# Altium integrated library Actel MX.IntLib: 334 symbols (part 2 of 20)
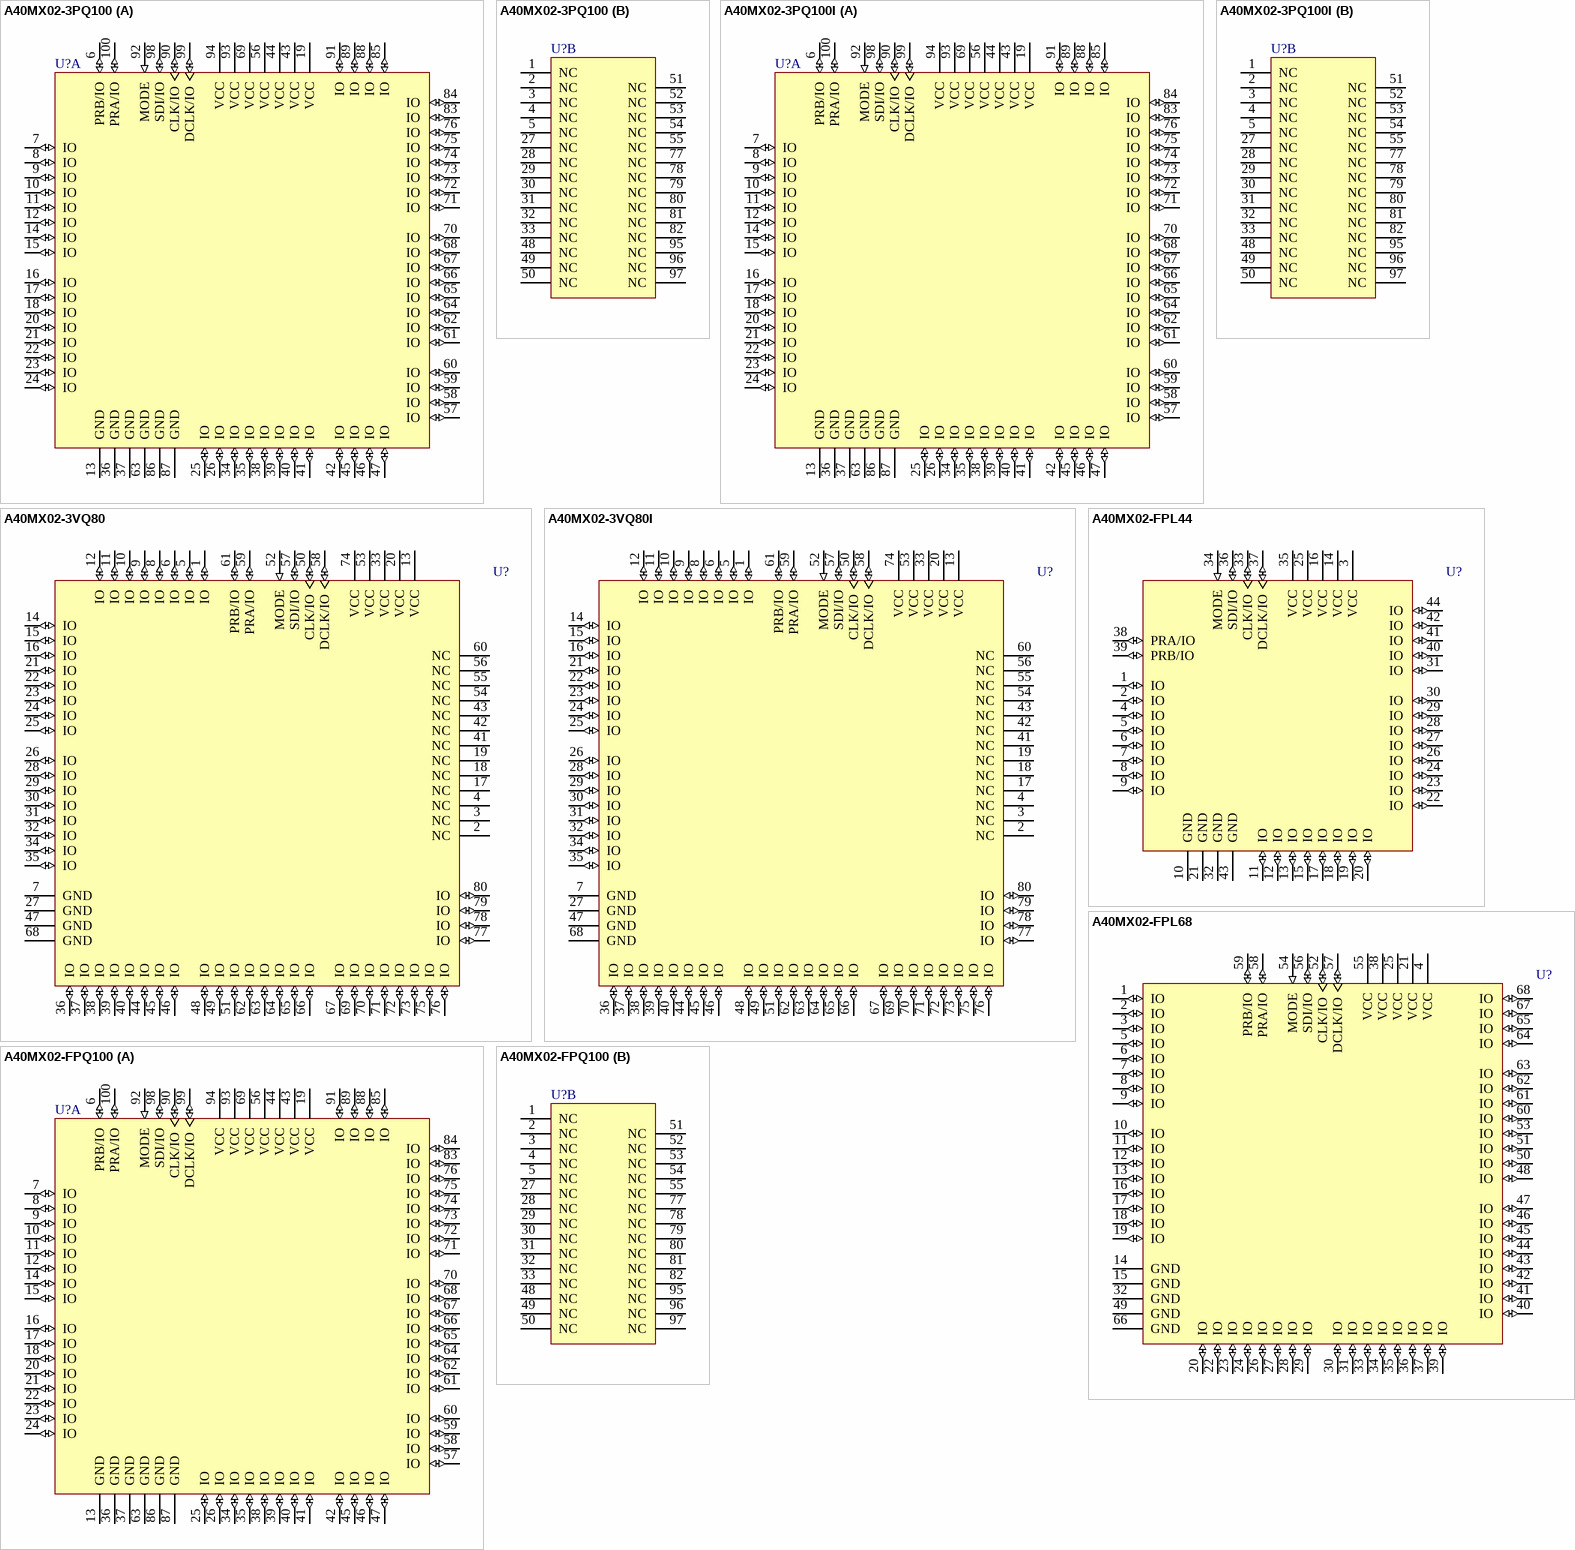
[diagram p133: symbols A40MX02-3PQ100 to A40MX02-FPQ100]

## A40MX02-3VQ80
designator U?
A40MX02 FPGA, 57 User IOs, 80-Pin VQFP, Speed Grade 3, Commercial Grade; DatasheetVersion: v6.1, Apr-2009; PackageVersion: ver11.2, Nov-2009; PackageReference: VQ80; PackageDescription: 80-Pin Plastic Quad Flat Pack (VQ80); Code_JEDEC: MS-026-AEC; ComponentLink1Description: Manufacturer URL; ComponentLink1URL: http://www.actel.com/; ComponentLink2Description: MX Datasheet; ComponentLink2URL: http://www.actel.com/documents/MX_DS.pdf; ComponentLink3Description: Package Mechanical Drawings; ComponentLink3URL: http://www.actel.com/documents/PckgMechDrwngs.pdf; ComponentLink4Description: MX Documents; ComponentLink4URL: http://www.actel.com/products/mx/docs.aspx
footprint VQ80_N (Thin QFP, 80-Leads, Body 14 x 14mm, Pitch 0.65mm, IPC Medium Density)
footprint VQ80_L (Thin QFP, 80-Leads, Body 14 x 14mm, Pitch 0.65mm, IPC High Density)
footprint VQ80_M (Thin QFP, 80-Leads, Body 14 x 14mm, Pitch 0.65mm, IPC Low Density)
pins: 1 IO (io), 2 NC, 3 NC, 4 NC, 5 IO (io), 6 IO (io), 7 GND (power), 8 IO (io), 9 IO (io), 10 IO (io), 11 IO (io), 12 IO (io), 13 VCC (power), 14 IO (io), 15 IO (io), 16 IO (io), 17 NC, 18 NC, 19 NC, 20 VCC (power), 21 IO (io), 22 IO (io), 23 IO (io), 24 IO (io), 25 IO (io), 26 IO (io), 27 GND (power), 28 IO (io), 29 IO (io), 30 IO (io), 31 IO (io), 32 IO (io), 33 VCC (power), 34 IO (io), 35 IO (io), 36 IO (io), 37 IO (io), 38 IO (io), 39 IO (io), 40 IO (io), 41 NC, 42 NC, 43 NC, 44 IO (io), 45 IO (io), 46 IO (io), 47 GND (power), 48 IO (io), 49 IO (io), 50 CLK/IO (io), 51 IO (io), 52 MODE (in), 53 VCC (power), 54 NC, 55 NC, 56 NC, 57 SDI/IO (io), 58 DCLK/IO (io), 59 PRA/IO (io), 60 NC, 61 PRB/IO (io), 62 IO (io), 63 IO (io), 64 IO (io), 65 IO (io), 66 IO (io), 67 IO (io), 68 GND (power), 69 IO (io), 70 IO (io), 71 IO (io), 72 IO (io), 73 IO (io), 74 VCC (power), 75 IO (io), 76 IO (io), 77 IO (io), 78 IO (io), 79 IO (io), 80 IO (io)

## A40MX02-3VQ80I
designator U?
A40MX02 FPGA, 57 User IOs, 80-Pin VQFP, Speed Grade 3, Industrial Grade; DatasheetVersion: v6.1, Apr-2009; PackageVersion: ver11.2, Nov-2009; PackageReference: VQ80; PackageDescription: 80-Pin Plastic Quad Flat Pack (VQ80); Code_JEDEC: MS-026-AEC; ComponentLink1Description: Manufacturer URL; ComponentLink1URL: http://www.actel.com/; ComponentLink2Description: MX Datasheet; ComponentLink2URL: http://www.actel.com/documents/MX_DS.pdf; ComponentLink3Description: Package Mechanical Drawings; ComponentLink3URL: http://www.actel.com/documents/PckgMechDrwngs.pdf; ComponentLink4Description: MX Documents; ComponentLink4URL: http://www.actel.com/products/mx/docs.aspx
footprint VQ80_N (Thin QFP, 80-Leads, Body 14 x 14mm, Pitch 0.65mm, IPC Medium Density)
footprint VQ80_L (Thin QFP, 80-Leads, Body 14 x 14mm, Pitch 0.65mm, IPC High Density)
footprint VQ80_M (Thin QFP, 80-Leads, Body 14 x 14mm, Pitch 0.65mm, IPC Low Density)
pins: 1 IO (io), 2 NC, 3 NC, 4 NC, 5 IO (io), 6 IO (io), 7 GND (power), 8 IO (io), 9 IO (io), 10 IO (io), 11 IO (io), 12 IO (io), 13 VCC (power), 14 IO (io), 15 IO (io), 16 IO (io), 17 NC, 18 NC, 19 NC, 20 VCC (power), 21 IO (io), 22 IO (io), 23 IO (io), 24 IO (io), 25 IO (io), 26 IO (io), 27 GND (power), 28 IO (io), 29 IO (io), 30 IO (io), 31 IO (io), 32 IO (io), 33 VCC (power), 34 IO (io), 35 IO (io), 36 IO (io), 37 IO (io), 38 IO (io), 39 IO (io), 40 IO (io), 41 NC, 42 NC, 43 NC, 44 IO (io), 45 IO (io), 46 IO (io), 47 GND (power), 48 IO (io), 49 IO (io), 50 CLK/IO (io), 51 IO (io), 52 MODE (in), 53 VCC (power), 54 NC, 55 NC, 56 NC, 57 SDI/IO (io), 58 DCLK/IO (io), 59 PRA/IO (io), 60 NC, 61 PRB/IO (io), 62 IO (io), 63 IO (io), 64 IO (io), 65 IO (io), 66 IO (io), 67 IO (io), 68 GND (power), 69 IO (io), 70 IO (io), 71 IO (io), 72 IO (io), 73 IO (io), 74 VCC (power), 75 IO (io), 76 IO (io), 77 IO (io), 78 IO (io), 79 IO (io), 80 IO (io)

## A40MX02-FPL44
designator U?
A40MX02 FPGA, 34 User IOs, 44-Pin PLCC, Speed Grade F, Commercial Grade; DatasheetVersion: v6.1, Apr-2009; PackageVersion: ver11.2, Nov-2009; PackageReference: PL44; PackageDescription: 44-Pin Plastic Leaded Chip Carrier (PL44); Code_JEDEC: MS-018-AC; Code_IPC: PLCC-44; ComponentLink1Description: Manufacturer URL; ComponentLink1URL: http://www.actel.com/; ComponentLink2Description: MX Datasheet; ComponentLink2URL: http://www.actel.com/documents/MX_DS.pdf; ComponentLink3Description: Package Mechanical Drawings; ComponentLink3URL: http://www.actel.com/documents/PckgMechDrwngs.pdf; ComponentLink4Description: MX Documents; ComponentLink4URL: http://www.actel.com/products/mx/docs.aspx
footprint PL44_N (Leaded Chip Carrier, 44-Leads, Body 16.6x16.6mm, Pitch 1.27mm, IPC Medium Density)
footprint PL44_L (Leaded Chip Carrier, 44-Leads, Body 16.6x16.6mm, Pitch 1.27mm, IPC High Density)
footprint PL44_M (Leaded Chip Carrier, 44-Leads, Body 16.6x16.6mm, Pitch 1.27mm, IPC Low Density)
pins: 1 IO (io), 2 IO (io), 3 VCC (power), 4 IO (io), 5 IO (io), 6 IO (io), 7 IO (io), 8 IO (io), 9 IO (io), 10 GND (power), 11 IO (io), 12 IO (io), 13 IO (io), 14 VCC (power), 15 IO (io), 16 VCC (power), 17 IO (io), 18 IO (io), 19 IO (io), 20 IO (io), 21 GND (power), 22 IO (io), 23 IO (io), 24 IO (io), 25 VCC (power), 26 IO (io), 27 IO (io), 28 IO (io), 29 IO (io), 30 IO (io), 31 IO (io), 32 GND (power), 33 CLK/IO (io), 34 MODE (in), 35 VCC (power), 36 SDI/IO (io), 37 DCLK/IO (io), 38 PRA/IO (io), 39 PRB/IO (io), 40 IO (io), 41 IO (io), 42 IO (io), 43 GND (power), 44 IO (io)

## A40MX02-FPL68
designator U?
A40MX02 FPGA, 57 User IOs, 68-Pin PLCC, Speed Grade F, Commercial Grade; DatasheetVersion: v6.1, Apr-2009; PackageVersion: ver11.2, Nov-2009; PackageReference: PL68; PackageDescription: 68-Pin Plastic Leaded Chip Carrier (PL68); Code_JEDEC: MS-018-AE; Code_IPC: PLCC-68; ComponentLink1Description: Manufacturer URL; ComponentLink1URL: http://www.actel.com/; ComponentLink2Description: MX Datasheet; ComponentLink2URL: http://www.actel.com/documents/MX_DS.pdf; ComponentLink3Description: Package Mechanical Drawings; ComponentLink3URL: http://www.actel.com/documents/PckgMechDrwngs.pdf; ComponentLink4Description: MX Documents; ComponentLink4URL: http://www.actel.com/products/mx/docs.aspx
footprint PL68_N (Leaded Chip Carrier, 68-Leads, Body 24x24mm, Pitch 1.27mm, IPC Medium Density)
footprint PL68_L (Leaded Chip Carrier, 68-Leads, Body 24x24mm, Pitch 1.27mm, IPC High Density)
footprint PL68_M (Leaded Chip Carrier, 68-Leads, Body 24x24mm, Pitch 1.27mm, IPC Low Density)
pins: 1 IO (io), 2 IO (io), 3 IO (io), 4 VCC (power), 5 IO (io), 6 IO (io), 7 IO (io), 8 IO (io), 9 IO (io), 10 IO (io), 11 IO (io), 12 IO (io), 13 IO (io), 14 GND (power), 15 GND (power), 16 IO (io), 17 IO (io), 18 IO (io), 19 IO (io), 20 IO (io), 21 VCC (power), 22 IO (io), 23 IO (io), 24 IO (io), 25 VCC (power), 26 IO (io), 27 IO (io), 28 IO (io), 29 IO (io), 30 IO (io), 31 IO (io), 32 GND (power), 33 IO (io), 34 IO (io), 35 IO (io), 36 IO (io), 37 IO (io), 38 VCC (power), 39 IO (io), 40 IO (io), 41 IO (io), 42 IO (io), 43 IO (io), 44 IO (io), 45 IO (io), 46 IO (io), 47 IO (io), 48 IO (io), 49 GND (power), 50 IO (io), 51 IO (io), 52 CLK/IO (io), 53 IO (io), 54 MODE (in), 55 VCC (power), 56 SDI/IO (io), 57 DCLK/IO (io), 58 PRA/IO (io), 59 PRB/IO (io), 60 IO (io), 61 IO (io), 62 IO (io), 63 IO (io), 64 IO (io), 65 IO (io), 66 GND (power), 67 IO (io), 68 IO (io)

## A40MX02-FPQ100
designator U?
A40MX02 FPGA, 57 User IOs, 100-Pin PQFP, Speed Grade F, Commercial Grade; DatasheetVersion: v6.1, Apr-2009; PackageVersion: ver11.2, Nov-2009; PackageReference: PQ100; PackageDescription: 100-Pin Plastic Quad Flat Pack Rectangular Package (PQ100); Code_JEDEC: MS-022-GC-1; Code_IPC: QFP65P1720X2320-100; ComponentLink1Description: Manufacturer URL; ComponentLink1URL: http://www.actel.com/; ComponentLink2Description: MX Datasheet; ComponentLink2URL: http://www.actel.com/documents/MX_DS.pdf; ComponentLink3Description: Package Mechanical Drawings; ComponentLink3URL: http://www.actel.com/documents/PckgMechDrwngs.pdf; ComponentLink4Description: MX Documents; ComponentLink4URL: http://www.actel.com/products/mx/docs.aspx
footprint PQ100_N (QFP, 100-Leads, Body 20x14mm, Pitch 0.65mm, IPC Medium Density)
footprint PQ100_L (QFP, 100-Leads, Body 20x14mm, Pitch 0.65mm, IPC High Density)
footprint PQ100_M (QFP, 100-Leads, Body 20x14mm, Pitch 0.65mm, IPC Low Density)
part A pins: 6 PRB/IO (io), 7 IO (io), 8 IO (io), 9 IO (io), 10 IO (io), 11 IO (io), 12 IO (io), 13 GND (power), 14 IO (io), 15 IO (io), 16 IO (io), 17 IO (io), 18 IO (io), 19 VCC (power), 20 IO (io), 21 IO (io), 22 IO (io), 23 IO (io), 24 IO (io), 25 IO (io), 26 IO (io), 34 IO (io), 35 IO (io), 36 GND (power), 37 GND (power), 38 IO (io), 39 IO (io), 40 IO (io), 41 IO (io), 42 IO (io), 43 VCC (power), 44 VCC (power), 45 IO (io), 46 IO (io), 47 IO (io), 56 VCC (power), 57 IO (io), 58 IO (io), 59 IO (io), 60 IO (io), 61 IO (io), 62 IO (io), 63 GND (power), 64 IO (io), 65 IO (io), 66 IO (io), 67 IO (io), 68 IO (io), 69 VCC (power), 70 IO (io), 71 IO (io), 72 IO (io), 73 IO (io), 74 IO (io), 75 IO (io), 76 IO (io), 83 IO (io), 84 IO (io), 85 IO (io), 86 GND (power), 87 GND (power), 88 IO (io), 89 IO (io), 90 CLK/IO (io), 91 IO (io), 92 MODE (in), 93 VCC (power), 94 VCC (power), 98 SDI/IO (io), 99 DCLK/IO (io), 100 PRA/IO (io)
part B pins: 1 NC, 2 NC, 3 NC, 4 NC, 5 NC, 27 NC, 28 NC, 29 NC, 30 NC, 31 NC, 32 NC, 33 NC, 48 NC, 49 NC, 50 NC, 51 NC, 52 NC, 53 NC, 54 NC, 55 NC, 77 NC, 78 NC, 79 NC, 80 NC, 81 NC, 82 NC, 95 NC, 96 NC, 97 NC

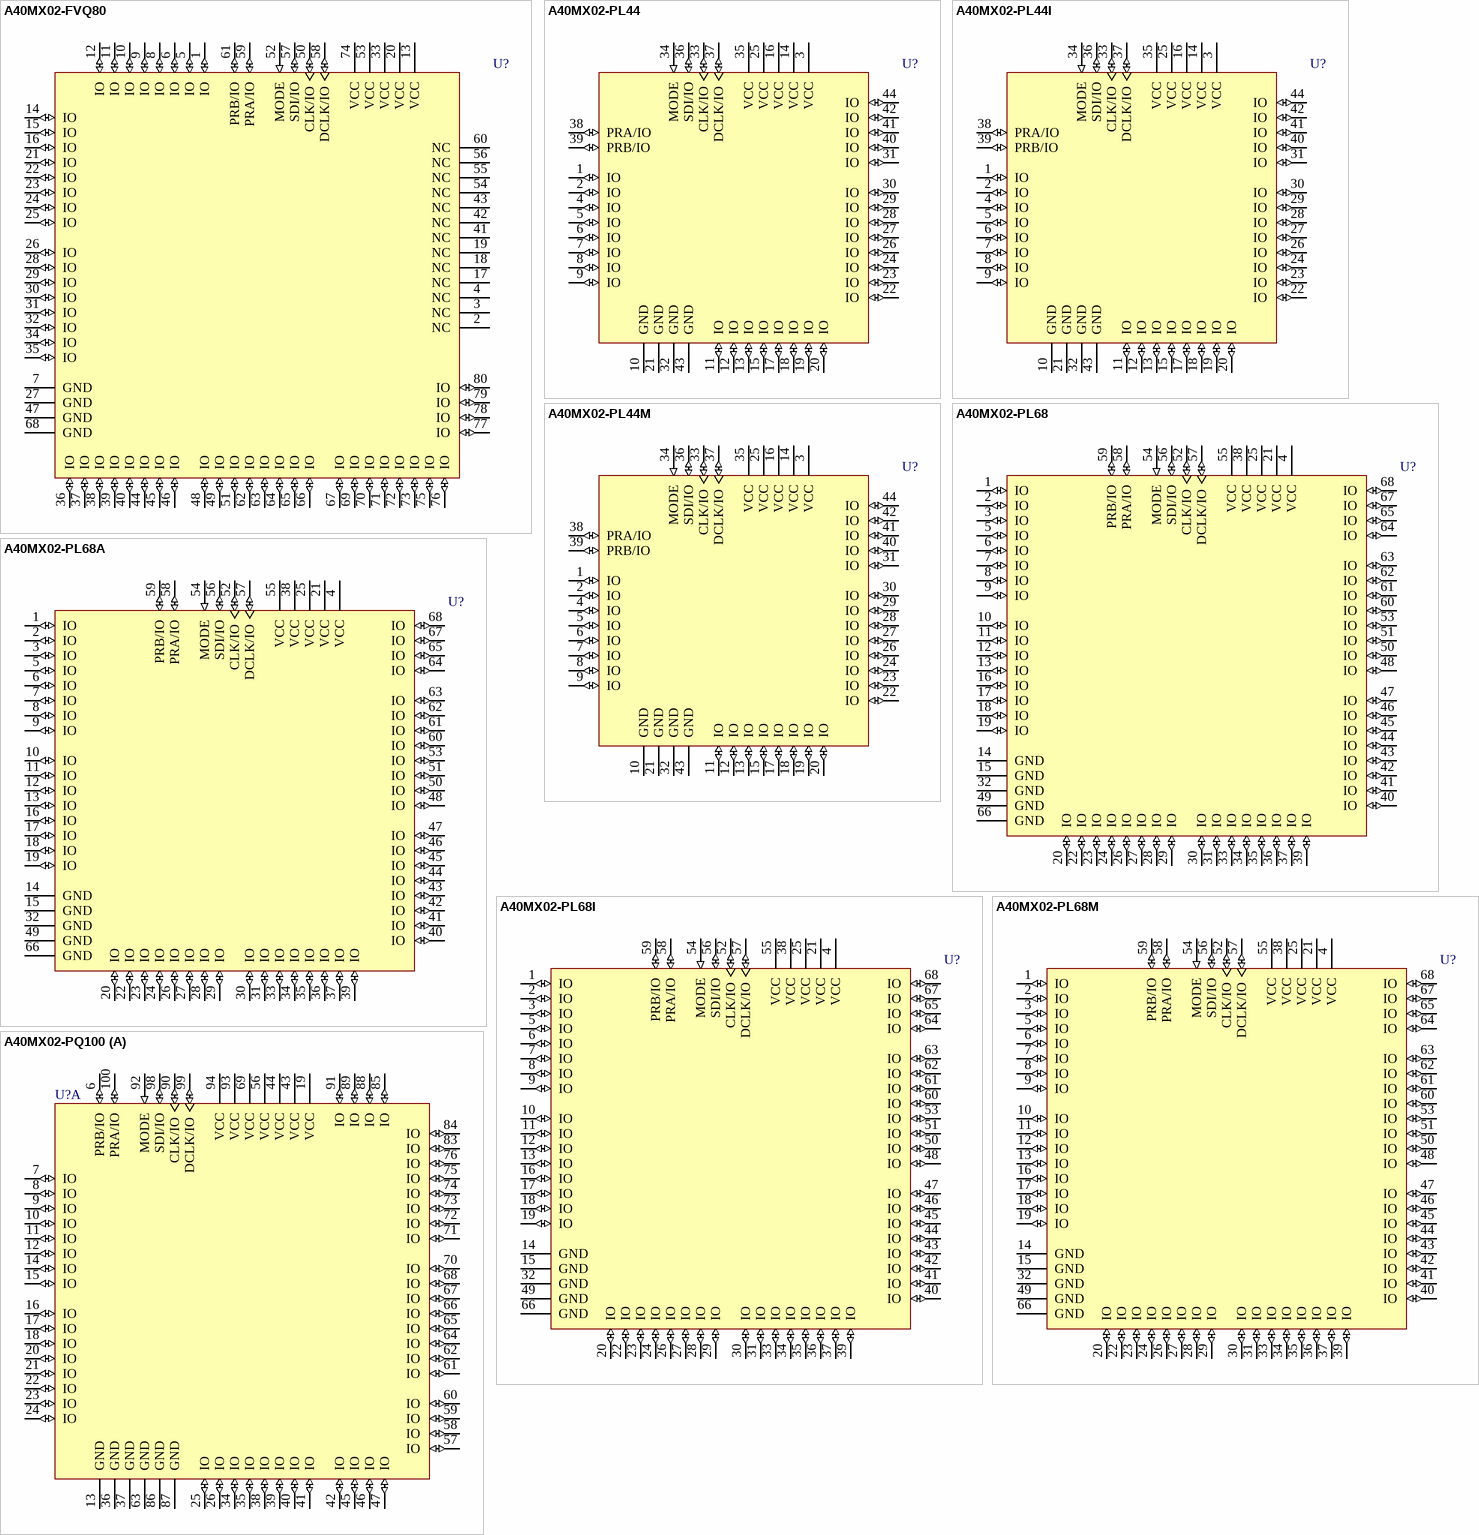
[diagram p4: symbols A40MX02-FVQ80 to A40MX02-PQ100]

## A40MX02-FVQ80
designator U?
A40MX02 FPGA, 57 User IOs, 80-Pin VQFP, Speed Grade F, Commercial Grade; DatasheetVersion: v6.1, Apr-2009; PackageVersion: ver11.2, Nov-2009; PackageReference: VQ80; PackageDescription: 80-Pin Plastic Quad Flat Pack (VQ80); Code_JEDEC: MS-026-AEC; ComponentLink1Description: Manufacturer URL; ComponentLink1URL: http://www.actel.com/; ComponentLink2Description: MX Datasheet; ComponentLink2URL: http://www.actel.com/documents/MX_DS.pdf; ComponentLink3Description: Package Mechanical Drawings; ComponentLink3URL: http://www.actel.com/documents/PckgMechDrwngs.pdf; ComponentLink4Description: MX Documents; ComponentLink4URL: http://www.actel.com/products/mx/docs.aspx
footprint VQ80_N (Thin QFP, 80-Leads, Body 14 x 14mm, Pitch 0.65mm, IPC Medium Density)
footprint VQ80_L (Thin QFP, 80-Leads, Body 14 x 14mm, Pitch 0.65mm, IPC High Density)
footprint VQ80_M (Thin QFP, 80-Leads, Body 14 x 14mm, Pitch 0.65mm, IPC Low Density)
pins: 1 IO (io), 2 NC, 3 NC, 4 NC, 5 IO (io), 6 IO (io), 7 GND (power), 8 IO (io), 9 IO (io), 10 IO (io), 11 IO (io), 12 IO (io), 13 VCC (power), 14 IO (io), 15 IO (io), 16 IO (io), 17 NC, 18 NC, 19 NC, 20 VCC (power), 21 IO (io), 22 IO (io), 23 IO (io), 24 IO (io), 25 IO (io), 26 IO (io), 27 GND (power), 28 IO (io), 29 IO (io), 30 IO (io), 31 IO (io), 32 IO (io), 33 VCC (power), 34 IO (io), 35 IO (io), 36 IO (io), 37 IO (io), 38 IO (io), 39 IO (io), 40 IO (io), 41 NC, 42 NC, 43 NC, 44 IO (io), 45 IO (io), 46 IO (io), 47 GND (power), 48 IO (io), 49 IO (io), 50 CLK/IO (io), 51 IO (io), 52 MODE (in), 53 VCC (power), 54 NC, 55 NC, 56 NC, 57 SDI/IO (io), 58 DCLK/IO (io), 59 PRA/IO (io), 60 NC, 61 PRB/IO (io), 62 IO (io), 63 IO (io), 64 IO (io), 65 IO (io), 66 IO (io), 67 IO (io), 68 GND (power), 69 IO (io), 70 IO (io), 71 IO (io), 72 IO (io), 73 IO (io), 74 VCC (power), 75 IO (io), 76 IO (io), 77 IO (io), 78 IO (io), 79 IO (io), 80 IO (io)

## A40MX02-PL44
designator U?
A40MX02 FPGA, 34 User IOs, 44-Pin PLCC, Speed Grade Standard, Commercial Grade; DatasheetVersion: v6.1, Apr-2009; PackageVersion: ver11.2, Nov-2009; PackageReference: PL44; PackageDescription: 44-Pin Plastic Leaded Chip Carrier (PL44); Code_JEDEC: MS-018-AC; Code_IPC: PLCC-44; ComponentLink1Description: Manufacturer URL; ComponentLink1URL: http://www.actel.com/; ComponentLink2Description: MX Datasheet; ComponentLink2URL: http://www.actel.com/documents/MX_DS.pdf; ComponentLink3Description: Package Mechanical Drawings; ComponentLink3URL: http://www.actel.com/documents/PckgMechDrwngs.pdf; ComponentLink4Description: MX Documents; ComponentLink4URL: http://www.actel.com/products/mx/docs.aspx
footprint PL44_N (Leaded Chip Carrier, 44-Leads, Body 16.6x16.6mm, Pitch 1.27mm, IPC Medium Density)
footprint PL44_L (Leaded Chip Carrier, 44-Leads, Body 16.6x16.6mm, Pitch 1.27mm, IPC High Density)
footprint PL44_M (Leaded Chip Carrier, 44-Leads, Body 16.6x16.6mm, Pitch 1.27mm, IPC Low Density)
pins: 1 IO (io), 2 IO (io), 3 VCC (power), 4 IO (io), 5 IO (io), 6 IO (io), 7 IO (io), 8 IO (io), 9 IO (io), 10 GND (power), 11 IO (io), 12 IO (io), 13 IO (io), 14 VCC (power), 15 IO (io), 16 VCC (power), 17 IO (io), 18 IO (io), 19 IO (io), 20 IO (io), 21 GND (power), 22 IO (io), 23 IO (io), 24 IO (io), 25 VCC (power), 26 IO (io), 27 IO (io), 28 IO (io), 29 IO (io), 30 IO (io), 31 IO (io), 32 GND (power), 33 CLK/IO (io), 34 MODE (in), 35 VCC (power), 36 SDI/IO (io), 37 DCLK/IO (io), 38 PRA/IO (io), 39 PRB/IO (io), 40 IO (io), 41 IO (io), 42 IO (io), 43 GND (power), 44 IO (io)

## A40MX02-PL44I
designator U?
A40MX02 FPGA, 34 User IOs, 44-Pin PLCC, Speed Grade Standard, Industrial Grade; DatasheetVersion: v6.1, Apr-2009; PackageVersion: ver11.2, Nov-2009; PackageReference: PL44; PackageDescription: 44-Pin Plastic Leaded Chip Carrier (PL44); Code_JEDEC: MS-018-AC; Code_IPC: PLCC-44; ComponentLink1Description: Manufacturer URL; ComponentLink1URL: http://www.actel.com/; ComponentLink2Description: MX Datasheet; ComponentLink2URL: http://www.actel.com/documents/MX_DS.pdf; ComponentLink3Description: Package Mechanical Drawings; ComponentLink3URL: http://www.actel.com/documents/PckgMechDrwngs.pdf; ComponentLink4Description: MX Documents; ComponentLink4URL: http://www.actel.com/products/mx/docs.aspx
footprint PL44_N (Leaded Chip Carrier, 44-Leads, Body 16.6x16.6mm, Pitch 1.27mm, IPC Medium Density)
footprint PL44_L (Leaded Chip Carrier, 44-Leads, Body 16.6x16.6mm, Pitch 1.27mm, IPC High Density)
footprint PL44_M (Leaded Chip Carrier, 44-Leads, Body 16.6x16.6mm, Pitch 1.27mm, IPC Low Density)
pins: 1 IO (io), 2 IO (io), 3 VCC (power), 4 IO (io), 5 IO (io), 6 IO (io), 7 IO (io), 8 IO (io), 9 IO (io), 10 GND (power), 11 IO (io), 12 IO (io), 13 IO (io), 14 VCC (power), 15 IO (io), 16 VCC (power), 17 IO (io), 18 IO (io), 19 IO (io), 20 IO (io), 21 GND (power), 22 IO (io), 23 IO (io), 24 IO (io), 25 VCC (power), 26 IO (io), 27 IO (io), 28 IO (io), 29 IO (io), 30 IO (io), 31 IO (io), 32 GND (power), 33 CLK/IO (io), 34 MODE (in), 35 VCC (power), 36 SDI/IO (io), 37 DCLK/IO (io), 38 PRA/IO (io), 39 PRB/IO (io), 40 IO (io), 41 IO (io), 42 IO (io), 43 GND (power), 44 IO (io)

## A40MX02-PL44M
designator U?
A40MX02 FPGA, 34 User IOs, 44-Pin PLCC, Speed Grade Standard, Military Grade; DatasheetVersion: v6.1, Apr-2009; PackageVersion: ver11.2, Nov-2009; PackageReference: PL44; PackageDescription: 44-Pin Plastic Leaded Chip Carrier (PL44); Code_JEDEC: MS-018-AC; Code_IPC: PLCC-44; ComponentLink1Description: Manufacturer URL; ComponentLink1URL: http://www.actel.com/; ComponentLink2Description: MX Datasheet; ComponentLink2URL: http://www.actel.com/documents/MX_DS.pdf; ComponentLink3Description: Package Mechanical Drawings; ComponentLink3URL: http://www.actel.com/documents/PckgMechDrwngs.pdf; ComponentLink4Description: MX Documents; ComponentLink4URL: http://www.actel.com/products/mx/docs.aspx
footprint PL44_N (Leaded Chip Carrier, 44-Leads, Body 16.6x16.6mm, Pitch 1.27mm, IPC Medium Density)
footprint PL44_L (Leaded Chip Carrier, 44-Leads, Body 16.6x16.6mm, Pitch 1.27mm, IPC High Density)
footprint PL44_M (Leaded Chip Carrier, 44-Leads, Body 16.6x16.6mm, Pitch 1.27mm, IPC Low Density)
pins: 1 IO (io), 2 IO (io), 3 VCC (power), 4 IO (io), 5 IO (io), 6 IO (io), 7 IO (io), 8 IO (io), 9 IO (io), 10 GND (power), 11 IO (io), 12 IO (io), 13 IO (io), 14 VCC (power), 15 IO (io), 16 VCC (power), 17 IO (io), 18 IO (io), 19 IO (io), 20 IO (io), 21 GND (power), 22 IO (io), 23 IO (io), 24 IO (io), 25 VCC (power), 26 IO (io), 27 IO (io), 28 IO (io), 29 IO (io), 30 IO (io), 31 IO (io), 32 GND (power), 33 CLK/IO (io), 34 MODE (in), 35 VCC (power), 36 SDI/IO (io), 37 DCLK/IO (io), 38 PRA/IO (io), 39 PRB/IO (io), 40 IO (io), 41 IO (io), 42 IO (io), 43 GND (power), 44 IO (io)

## A40MX02-PL68
designator U?
A40MX02 FPGA, 57 User IOs, 68-Pin PLCC, Speed Grade Standard, Commercial Grade; DatasheetVersion: v6.1, Apr-2009; PackageVersion: ver11.2, Nov-2009; PackageReference: PL68; PackageDescription: 68-Pin Plastic Leaded Chip Carrier (PL68); Code_JEDEC: MS-018-AE; Code_IPC: PLCC-68; ComponentLink1Description: Manufacturer URL; ComponentLink1URL: http://www.actel.com/; ComponentLink2Description: MX Datasheet; ComponentLink2URL: http://www.actel.com/documents/MX_DS.pdf; ComponentLink3Description: Package Mechanical Drawings; ComponentLink3URL: http://www.actel.com/documents/PckgMechDrwngs.pdf; ComponentLink4Description: MX Documents; ComponentLink4URL: http://www.actel.com/products/mx/docs.aspx
footprint PL68_N (Leaded Chip Carrier, 68-Leads, Body 24x24mm, Pitch 1.27mm, IPC Medium Density)
footprint PL68_L (Leaded Chip Carrier, 68-Leads, Body 24x24mm, Pitch 1.27mm, IPC High Density)
footprint PL68_M (Leaded Chip Carrier, 68-Leads, Body 24x24mm, Pitch 1.27mm, IPC Low Density)
pins: 1 IO (io), 2 IO (io), 3 IO (io), 4 VCC (power), 5 IO (io), 6 IO (io), 7 IO (io), 8 IO (io), 9 IO (io), 10 IO (io), 11 IO (io), 12 IO (io), 13 IO (io), 14 GND (power), 15 GND (power), 16 IO (io), 17 IO (io), 18 IO (io), 19 IO (io), 20 IO (io), 21 VCC (power), 22 IO (io), 23 IO (io), 24 IO (io), 25 VCC (power), 26 IO (io), 27 IO (io), 28 IO (io), 29 IO (io), 30 IO (io), 31 IO (io), 32 GND (power), 33 IO (io), 34 IO (io), 35 IO (io), 36 IO (io), 37 IO (io), 38 VCC (power), 39 IO (io), 40 IO (io), 41 IO (io), 42 IO (io), 43 IO (io), 44 IO (io), 45 IO (io), 46 IO (io), 47 IO (io), 48 IO (io), 49 GND (power), 50 IO (io), 51 IO (io), 52 CLK/IO (io), 53 IO (io), 54 MODE (in), 55 VCC (power), 56 SDI/IO (io), 57 DCLK/IO (io), 58 PRA/IO (io), 59 PRB/IO (io), 60 IO (io), 61 IO (io), 62 IO (io), 63 IO (io), 64 IO (io), 65 IO (io), 66 GND (power), 67 IO (io), 68 IO (io)

## A40MX02-PL68A
designator U?
A40MX02 FPGA, 57 User IOs, 68-Pin PLCC, Speed Grade Standard, Automotive Grade; DatasheetVersion: v3.1, May-2006; PackageVersion: ver11.2, Nov-2009; PackageReference: PL68; PackageDescription: 68-Pin Plastic Leaded Chip Carrier (PL68); Code_JEDEC: MS-018-AE; Code_IPC: PLCC-68; ComponentLink1Description: Manufacturer URL; ComponentLink1URL: http://www.actel.com/; ComponentLink2Description: MX Automotive Datasheet; ComponentLink2URL: http://www.actel.com/documents/MX_Auto_DS.pdf; ComponentLink3Description: Package Mechanical Drawings; ComponentLink3URL: http://www.actel.com/documents/PckgMechDrwngs.pdf; ComponentLink4Description: MX Documents; ComponentLink4URL: http://www.actel.com/products/mx/docs.aspx
footprint PL68_N (Leaded Chip Carrier, 68-Leads, Body 24x24mm, Pitch 1.27mm, IPC Medium Density)
footprint PL68_L (Leaded Chip Carrier, 68-Leads, Body 24x24mm, Pitch 1.27mm, IPC High Density)
footprint PL68_M (Leaded Chip Carrier, 68-Leads, Body 24x24mm, Pitch 1.27mm, IPC Low Density)
pins: 1 IO (io), 2 IO (io), 3 IO (io), 4 VCC (power), 5 IO (io), 6 IO (io), 7 IO (io), 8 IO (io), 9 IO (io), 10 IO (io), 11 IO (io), 12 IO (io), 13 IO (io), 14 GND (power), 15 GND (power), 16 IO (io), 17 IO (io), 18 IO (io), 19 IO (io), 20 IO (io), 21 VCC (power), 22 IO (io), 23 IO (io), 24 IO (io), 25 VCC (power), 26 IO (io), 27 IO (io), 28 IO (io), 29 IO (io), 30 IO (io), 31 IO (io), 32 GND (power), 33 IO (io), 34 IO (io), 35 IO (io), 36 IO (io), 37 IO (io), 38 VCC (power), 39 IO (io), 40 IO (io), 41 IO (io), 42 IO (io), 43 IO (io), 44 IO (io), 45 IO (io), 46 IO (io), 47 IO (io), 48 IO (io), 49 GND (power), 50 IO (io), 51 IO (io), 52 CLK/IO (io), 53 IO (io), 54 MODE (in), 55 VCC (power), 56 SDI/IO (io), 57 DCLK/IO (io), 58 PRA/IO (io), 59 PRB/IO (io), 60 IO (io), 61 IO (io), 62 IO (io), 63 IO (io), 64 IO (io), 65 IO (io), 66 GND (power), 67 IO (io), 68 IO (io)

## A40MX02-PL68I
designator U?
A40MX02 FPGA, 57 User IOs, 68-Pin PLCC, Speed Grade Standard, Industrial Grade; DatasheetVersion: v6.1, Apr-2009; PackageVersion: ver11.2, Nov-2009; PackageReference: PL68; PackageDescription: 68-Pin Plastic Leaded Chip Carrier (PL68); Code_JEDEC: MS-018-AE; Code_IPC: PLCC-68; ComponentLink1Description: Manufacturer URL; ComponentLink1URL: http://www.actel.com/; ComponentLink2Description: MX Datasheet; ComponentLink2URL: http://www.actel.com/documents/MX_DS.pdf; ComponentLink3Description: Package Mechanical Drawings; ComponentLink3URL: http://www.actel.com/documents/PckgMechDrwngs.pdf; ComponentLink4Description: MX Documents; ComponentLink4URL: http://www.actel.com/products/mx/docs.aspx
footprint PL68_N (Leaded Chip Carrier, 68-Leads, Body 24x24mm, Pitch 1.27mm, IPC Medium Density)
footprint PL68_L (Leaded Chip Carrier, 68-Leads, Body 24x24mm, Pitch 1.27mm, IPC High Density)
footprint PL68_M (Leaded Chip Carrier, 68-Leads, Body 24x24mm, Pitch 1.27mm, IPC Low Density)
pins: 1 IO (io), 2 IO (io), 3 IO (io), 4 VCC (power), 5 IO (io), 6 IO (io), 7 IO (io), 8 IO (io), 9 IO (io), 10 IO (io), 11 IO (io), 12 IO (io), 13 IO (io), 14 GND (power), 15 GND (power), 16 IO (io), 17 IO (io), 18 IO (io), 19 IO (io), 20 IO (io), 21 VCC (power), 22 IO (io), 23 IO (io), 24 IO (io), 25 VCC (power), 26 IO (io), 27 IO (io), 28 IO (io), 29 IO (io), 30 IO (io), 31 IO (io), 32 GND (power), 33 IO (io), 34 IO (io), 35 IO (io), 36 IO (io), 37 IO (io), 38 VCC (power), 39 IO (io), 40 IO (io), 41 IO (io), 42 IO (io), 43 IO (io), 44 IO (io), 45 IO (io), 46 IO (io), 47 IO (io), 48 IO (io), 49 GND (power), 50 IO (io), 51 IO (io), 52 CLK/IO (io), 53 IO (io), 54 MODE (in), 55 VCC (power), 56 SDI/IO (io), 57 DCLK/IO (io), 58 PRA/IO (io), 59 PRB/IO (io), 60 IO (io), 61 IO (io), 62 IO (io), 63 IO (io), 64 IO (io), 65 IO (io), 66 GND (power), 67 IO (io), 68 IO (io)

## A40MX02-PL68M
designator U?
A40MX02 FPGA, 57 User IOs, 68-Pin PLCC, Speed Grade Standard, Military Grade; DatasheetVersion: v6.1, Apr-2009; PackageVersion: ver11.2, Nov-2009; PackageReference: PL68; PackageDescription: 68-Pin Plastic Leaded Chip Carrier (PL68); Code_JEDEC: MS-018-AE; Code_IPC: PLCC-68; ComponentLink1Description: Manufacturer URL; ComponentLink1URL: http://www.actel.com/; ComponentLink2Description: MX Datasheet; ComponentLink2URL: http://www.actel.com/documents/MX_DS.pdf; ComponentLink3Description: Package Mechanical Drawings; ComponentLink3URL: http://www.actel.com/documents/PckgMechDrwngs.pdf; ComponentLink4Description: MX Documents; ComponentLink4URL: http://www.actel.com/products/mx/docs.aspx
footprint PL68_N (Leaded Chip Carrier, 68-Leads, Body 24x24mm, Pitch 1.27mm, IPC Medium Density)
footprint PL68_L (Leaded Chip Carrier, 68-Leads, Body 24x24mm, Pitch 1.27mm, IPC High Density)
footprint PL68_M (Leaded Chip Carrier, 68-Leads, Body 24x24mm, Pitch 1.27mm, IPC Low Density)
pins: 1 IO (io), 2 IO (io), 3 IO (io), 4 VCC (power), 5 IO (io), 6 IO (io), 7 IO (io), 8 IO (io), 9 IO (io), 10 IO (io), 11 IO (io), 12 IO (io), 13 IO (io), 14 GND (power), 15 GND (power), 16 IO (io), 17 IO (io), 18 IO (io), 19 IO (io), 20 IO (io), 21 VCC (power), 22 IO (io), 23 IO (io), 24 IO (io), 25 VCC (power), 26 IO (io), 27 IO (io), 28 IO (io), 29 IO (io), 30 IO (io), 31 IO (io), 32 GND (power), 33 IO (io), 34 IO (io), 35 IO (io), 36 IO (io), 37 IO (io), 38 VCC (power), 39 IO (io), 40 IO (io), 41 IO (io), 42 IO (io), 43 IO (io), 44 IO (io), 45 IO (io), 46 IO (io), 47 IO (io), 48 IO (io), 49 GND (power), 50 IO (io), 51 IO (io), 52 CLK/IO (io), 53 IO (io), 54 MODE (in), 55 VCC (power), 56 SDI/IO (io), 57 DCLK/IO (io), 58 PRA/IO (io), 59 PRB/IO (io), 60 IO (io), 61 IO (io), 62 IO (io), 63 IO (io), 64 IO (io), 65 IO (io), 66 GND (power), 67 IO (io), 68 IO (io)

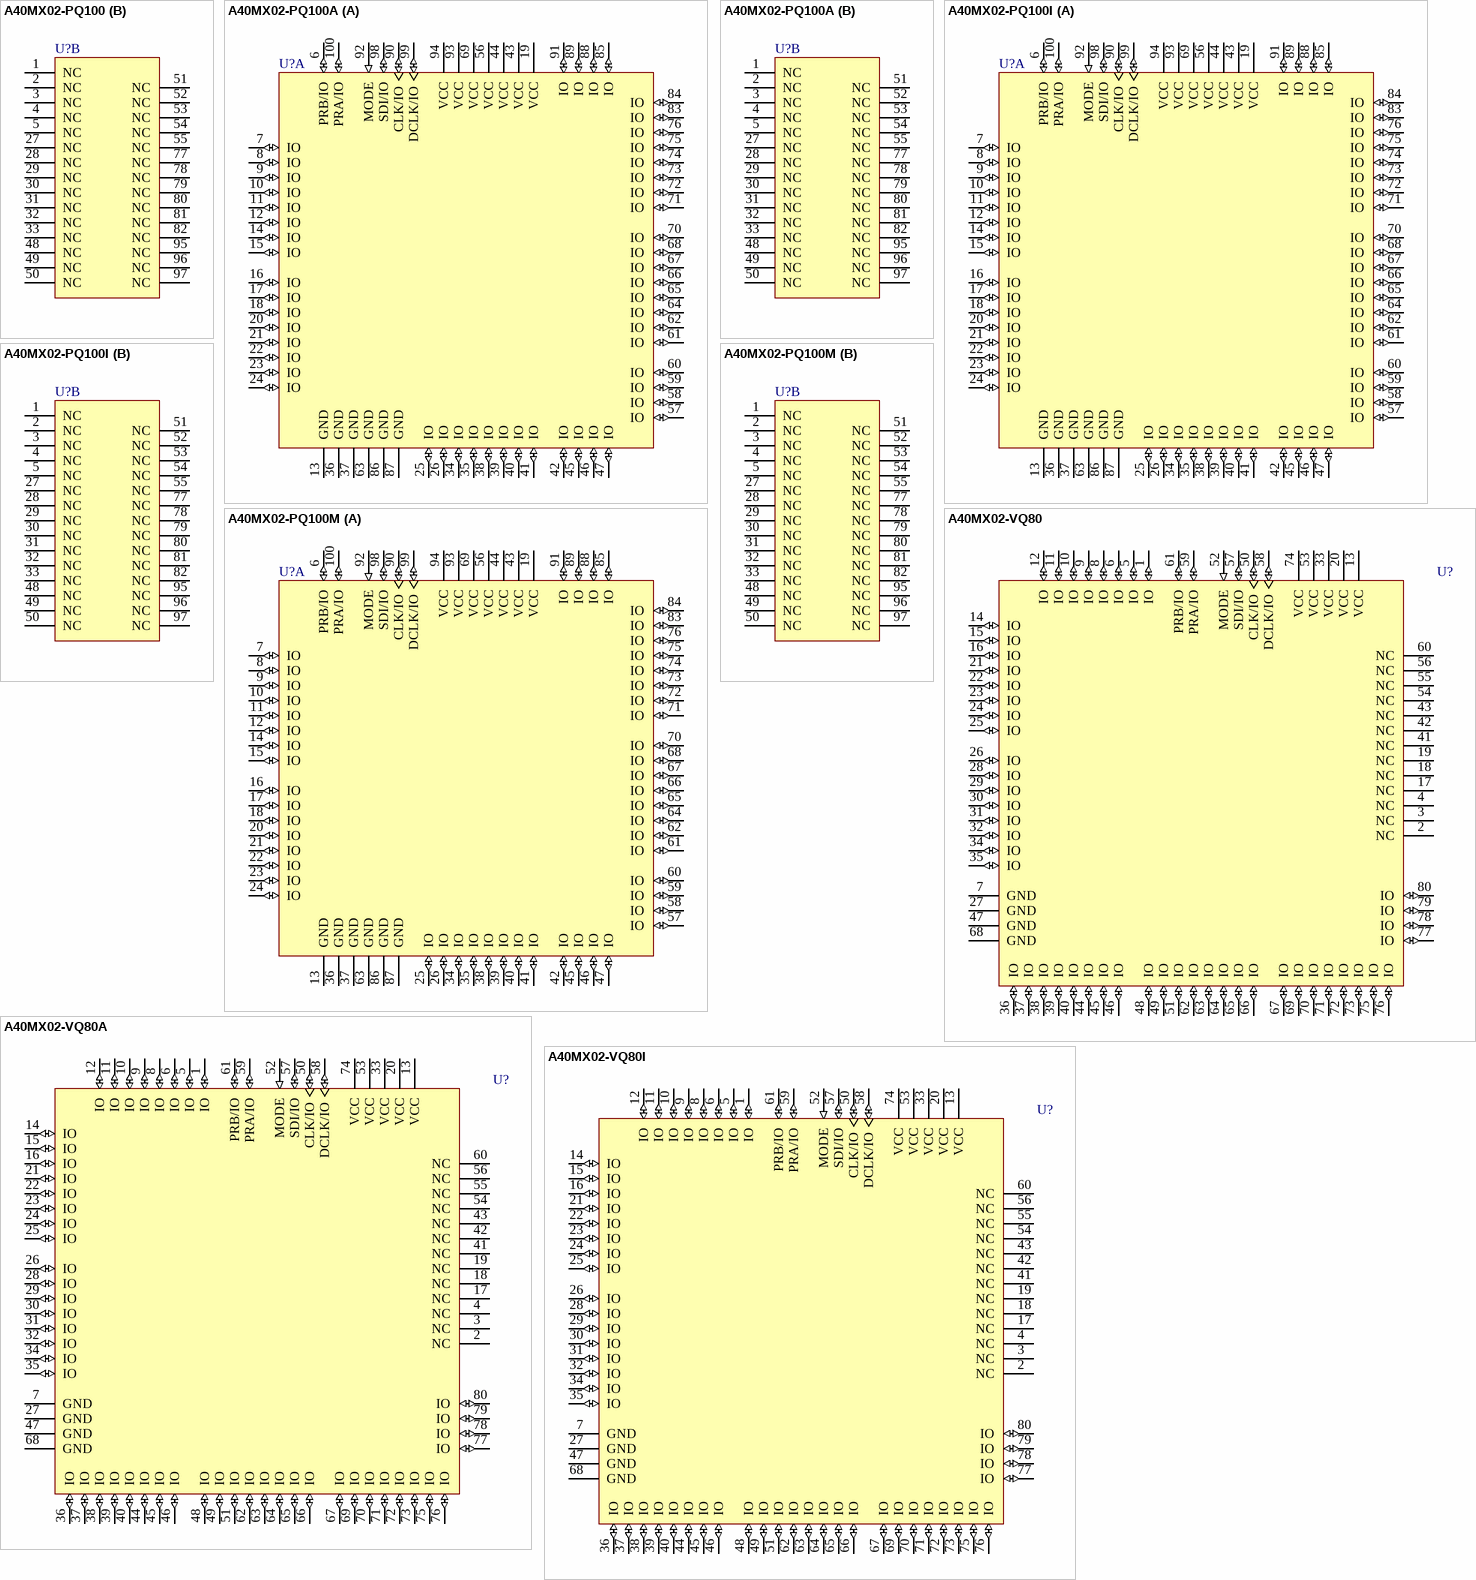
[diagram p5: symbols A40MX02-PQ100 to A40MX02-VQ80I]

## A40MX02-PQ100
designator U?
A40MX02 FPGA, 57 User IOs, 100-Pin PQFP, Speed Grade Standard, Commercial Grade; DatasheetVersion: v6.1, Apr-2009; PackageVersion: ver11.2, Nov-2009; PackageReference: PQ100; PackageDescription: 100-Pin Plastic Quad Flat Pack Rectangular Package (PQ100); Code_JEDEC: MS-022-GC-1; Code_IPC: QFP65P1720X2320-100; ComponentLink1Description: Manufacturer URL; ComponentLink1URL: http://www.actel.com/; ComponentLink2Description: MX Datasheet; ComponentLink2URL: http://www.actel.com/documents/MX_DS.pdf; ComponentLink3Description: Package Mechanical Drawings; ComponentLink3URL: http://www.actel.com/documents/PckgMechDrwngs.pdf; ComponentLink4Description: MX Documents; ComponentLink4URL: http://www.actel.com/products/mx/docs.aspx
footprint PQ100_N (QFP, 100-Leads, Body 20x14mm, Pitch 0.65mm, IPC Medium Density)
footprint PQ100_L (QFP, 100-Leads, Body 20x14mm, Pitch 0.65mm, IPC High Density)
footprint PQ100_M (QFP, 100-Leads, Body 20x14mm, Pitch 0.65mm, IPC Low Density)
part A pins: 6 PRB/IO (io), 7 IO (io), 8 IO (io), 9 IO (io), 10 IO (io), 11 IO (io), 12 IO (io), 13 GND (power), 14 IO (io), 15 IO (io), 16 IO (io), 17 IO (io), 18 IO (io), 19 VCC (power), 20 IO (io), 21 IO (io), 22 IO (io), 23 IO (io), 24 IO (io), 25 IO (io), 26 IO (io), 34 IO (io), 35 IO (io), 36 GND (power), 37 GND (power), 38 IO (io), 39 IO (io), 40 IO (io), 41 IO (io), 42 IO (io), 43 VCC (power), 44 VCC (power), 45 IO (io), 46 IO (io), 47 IO (io), 56 VCC (power), 57 IO (io), 58 IO (io), 59 IO (io), 60 IO (io), 61 IO (io), 62 IO (io), 63 GND (power), 64 IO (io), 65 IO (io), 66 IO (io), 67 IO (io), 68 IO (io), 69 VCC (power), 70 IO (io), 71 IO (io), 72 IO (io), 73 IO (io), 74 IO (io), 75 IO (io), 76 IO (io), 83 IO (io), 84 IO (io), 85 IO (io), 86 GND (power), 87 GND (power), 88 IO (io), 89 IO (io), 90 CLK/IO (io), 91 IO (io), 92 MODE (in), 93 VCC (power), 94 VCC (power), 98 SDI/IO (io), 99 DCLK/IO (io), 100 PRA/IO (io)
part B pins: 1 NC, 2 NC, 3 NC, 4 NC, 5 NC, 27 NC, 28 NC, 29 NC, 30 NC, 31 NC, 32 NC, 33 NC, 48 NC, 49 NC, 50 NC, 51 NC, 52 NC, 53 NC, 54 NC, 55 NC, 77 NC, 78 NC, 79 NC, 80 NC, 81 NC, 82 NC, 95 NC, 96 NC, 97 NC

## A40MX02-PQ100A
designator U?
A40MX02 FPGA, 57 User IOs, 100-Pin PQFP, Speed Grade Standard, Automotive Grade; DatasheetVersion: v3.1, May-2006; PackageVersion: ver11.2, Nov-2009; PackageReference: PQ100; PackageDescription: 100-Pin Plastic Quad Flat Pack Rectangular Package (PQ100); Code_JEDEC: MS-022-GC-1; Code_IPC: QFP65P1720X2320-100; ComponentLink1Description: Manufacturer URL; ComponentLink1URL: http://www.actel.com/; ComponentLink2Description: MX Automotive Datasheet; ComponentLink2URL: http://www.actel.com/documents/MX_Auto_DS.pdf; ComponentLink3Description: Package Mechanical Drawings; ComponentLink3URL: http://www.actel.com/documents/PckgMechDrwngs.pdf; ComponentLink4Description: MX Documents; ComponentLink4URL: http://www.actel.com/products/mx/docs.aspx
footprint PQ100_N (QFP, 100-Leads, Body 20x14mm, Pitch 0.65mm, IPC Medium Density)
footprint PQ100_L (QFP, 100-Leads, Body 20x14mm, Pitch 0.65mm, IPC High Density)
footprint PQ100_M (QFP, 100-Leads, Body 20x14mm, Pitch 0.65mm, IPC Low Density)
part A pins: 6 PRB/IO (io), 7 IO (io), 8 IO (io), 9 IO (io), 10 IO (io), 11 IO (io), 12 IO (io), 13 GND (power), 14 IO (io), 15 IO (io), 16 IO (io), 17 IO (io), 18 IO (io), 19 VCC (power), 20 IO (io), 21 IO (io), 22 IO (io), 23 IO (io), 24 IO (io), 25 IO (io), 26 IO (io), 34 IO (io), 35 IO (io), 36 GND (power), 37 GND (power), 38 IO (io), 39 IO (io), 40 IO (io), 41 IO (io), 42 IO (io), 43 VCC (power), 44 VCC (power), 45 IO (io), 46 IO (io), 47 IO (io), 56 VCC (power), 57 IO (io), 58 IO (io), 59 IO (io), 60 IO (io), 61 IO (io), 62 IO (io), 63 GND (power), 64 IO (io), 65 IO (io), 66 IO (io), 67 IO (io), 68 IO (io), 69 VCC (power), 70 IO (io), 71 IO (io), 72 IO (io), 73 IO (io), 74 IO (io), 75 IO (io), 76 IO (io), 83 IO (io), 84 IO (io), 85 IO (io), 86 GND (power), 87 GND (power), 88 IO (io), 89 IO (io), 90 CLK/IO (io), 91 IO (io), 92 MODE (in), 93 VCC (power), 94 VCC (power), 98 SDI/IO (io), 99 DCLK/IO (io), 100 PRA/IO (io)
part B pins: 1 NC, 2 NC, 3 NC, 4 NC, 5 NC, 27 NC, 28 NC, 29 NC, 30 NC, 31 NC, 32 NC, 33 NC, 48 NC, 49 NC, 50 NC, 51 NC, 52 NC, 53 NC, 54 NC, 55 NC, 77 NC, 78 NC, 79 NC, 80 NC, 81 NC, 82 NC, 95 NC, 96 NC, 97 NC

## A40MX02-PQ100I
designator U?
A40MX02 FPGA, 57 User IOs, 100-Pin PQFP, Speed Grade Standard, Industrial Grade; DatasheetVersion: v6.1, Apr-2009; PackageVersion: ver11.2, Nov-2009; PackageReference: PQ100; PackageDescription: 100-Pin Plastic Quad Flat Pack Rectangular Package (PQ100); Code_JEDEC: MS-022-GC-1; Code_IPC: QFP65P1720X2320-100; ComponentLink1Description: Manufacturer URL; ComponentLink1URL: http://www.actel.com/; ComponentLink2Description: MX Datasheet; ComponentLink2URL: http://www.actel.com/documents/MX_DS.pdf; ComponentLink3Description: Package Mechanical Drawings; ComponentLink3URL: http://www.actel.com/documents/PckgMechDrwngs.pdf; ComponentLink4Description: MX Documents; ComponentLink4URL: http://www.actel.com/products/mx/docs.aspx
footprint PQ100_N (QFP, 100-Leads, Body 20x14mm, Pitch 0.65mm, IPC Medium Density)
footprint PQ100_L (QFP, 100-Leads, Body 20x14mm, Pitch 0.65mm, IPC High Density)
footprint PQ100_M (QFP, 100-Leads, Body 20x14mm, Pitch 0.65mm, IPC Low Density)
part A pins: 6 PRB/IO (io), 7 IO (io), 8 IO (io), 9 IO (io), 10 IO (io), 11 IO (io), 12 IO (io), 13 GND (power), 14 IO (io), 15 IO (io), 16 IO (io), 17 IO (io), 18 IO (io), 19 VCC (power), 20 IO (io), 21 IO (io), 22 IO (io), 23 IO (io), 24 IO (io), 25 IO (io), 26 IO (io), 34 IO (io), 35 IO (io), 36 GND (power), 37 GND (power), 38 IO (io), 39 IO (io), 40 IO (io), 41 IO (io), 42 IO (io), 43 VCC (power), 44 VCC (power), 45 IO (io), 46 IO (io), 47 IO (io), 56 VCC (power), 57 IO (io), 58 IO (io), 59 IO (io), 60 IO (io), 61 IO (io), 62 IO (io), 63 GND (power), 64 IO (io), 65 IO (io), 66 IO (io), 67 IO (io), 68 IO (io), 69 VCC (power), 70 IO (io), 71 IO (io), 72 IO (io), 73 IO (io), 74 IO (io), 75 IO (io), 76 IO (io), 83 IO (io), 84 IO (io), 85 IO (io), 86 GND (power), 87 GND (power), 88 IO (io), 89 IO (io), 90 CLK/IO (io), 91 IO (io), 92 MODE (in), 93 VCC (power), 94 VCC (power), 98 SDI/IO (io), 99 DCLK/IO (io), 100 PRA/IO (io)
part B pins: 1 NC, 2 NC, 3 NC, 4 NC, 5 NC, 27 NC, 28 NC, 29 NC, 30 NC, 31 NC, 32 NC, 33 NC, 48 NC, 49 NC, 50 NC, 51 NC, 52 NC, 53 NC, 54 NC, 55 NC, 77 NC, 78 NC, 79 NC, 80 NC, 81 NC, 82 NC, 95 NC, 96 NC, 97 NC

## A40MX02-PQ100M
designator U?
A40MX02 FPGA, 57 User IOs, 100-Pin PQFP, Speed Grade Standard, Military Grade; DatasheetVersion: v6.1, Apr-2009; PackageVersion: ver11.2, Nov-2009; PackageReference: PQ100; PackageDescription: 100-Pin Plastic Quad Flat Pack Rectangular Package (PQ100); Code_JEDEC: MS-022-GC-1; Code_IPC: QFP65P1720X2320-100; ComponentLink1Description: Manufacturer URL; ComponentLink1URL: http://www.actel.com/; ComponentLink2Description: MX Datasheet; ComponentLink2URL: http://www.actel.com/documents/MX_DS.pdf; ComponentLink3Description: Package Mechanical Drawings; ComponentLink3URL: http://www.actel.com/documents/PckgMechDrwngs.pdf; ComponentLink4Description: MX Documents; ComponentLink4URL: http://www.actel.com/products/mx/docs.aspx
footprint PQ100_N (QFP, 100-Leads, Body 20x14mm, Pitch 0.65mm, IPC Medium Density)
footprint PQ100_L (QFP, 100-Leads, Body 20x14mm, Pitch 0.65mm, IPC High Density)
footprint PQ100_M (QFP, 100-Leads, Body 20x14mm, Pitch 0.65mm, IPC Low Density)
part A pins: 6 PRB/IO (io), 7 IO (io), 8 IO (io), 9 IO (io), 10 IO (io), 11 IO (io), 12 IO (io), 13 GND (power), 14 IO (io), 15 IO (io), 16 IO (io), 17 IO (io), 18 IO (io), 19 VCC (power), 20 IO (io), 21 IO (io), 22 IO (io), 23 IO (io), 24 IO (io), 25 IO (io), 26 IO (io), 34 IO (io), 35 IO (io), 36 GND (power), 37 GND (power), 38 IO (io), 39 IO (io), 40 IO (io), 41 IO (io), 42 IO (io), 43 VCC (power), 44 VCC (power), 45 IO (io), 46 IO (io), 47 IO (io), 56 VCC (power), 57 IO (io), 58 IO (io), 59 IO (io), 60 IO (io), 61 IO (io), 62 IO (io), 63 GND (power), 64 IO (io), 65 IO (io), 66 IO (io), 67 IO (io), 68 IO (io), 69 VCC (power), 70 IO (io), 71 IO (io), 72 IO (io), 73 IO (io), 74 IO (io), 75 IO (io), 76 IO (io), 83 IO (io), 84 IO (io), 85 IO (io), 86 GND (power), 87 GND (power), 88 IO (io), 89 IO (io), 90 CLK/IO (io), 91 IO (io), 92 MODE (in), 93 VCC (power), 94 VCC (power), 98 SDI/IO (io), 99 DCLK/IO (io), 100 PRA/IO (io)
part B pins: 1 NC, 2 NC, 3 NC, 4 NC, 5 NC, 27 NC, 28 NC, 29 NC, 30 NC, 31 NC, 32 NC, 33 NC, 48 NC, 49 NC, 50 NC, 51 NC, 52 NC, 53 NC, 54 NC, 55 NC, 77 NC, 78 NC, 79 NC, 80 NC, 81 NC, 82 NC, 95 NC, 96 NC, 97 NC

## A40MX02-VQ80
designator U?
A40MX02 FPGA, 57 User IOs, 80-Pin VQFP, Speed Grade Standard, Commercial Grade; DatasheetVersion: v6.1, Apr-2009; PackageVersion: ver11.2, Nov-2009; PackageReference: VQ80; PackageDescription: 80-Pin Plastic Quad Flat Pack (VQ80); Code_JEDEC: MS-026-AEC; ComponentLink1Description: Manufacturer URL; ComponentLink1URL: http://www.actel.com/; ComponentLink2Description: MX Datasheet; ComponentLink2URL: http://www.actel.com/documents/MX_DS.pdf; ComponentLink3Description: Package Mechanical Drawings; ComponentLink3URL: http://www.actel.com/documents/PckgMechDrwngs.pdf; ComponentLink4Description: MX Documents; ComponentLink4URL: http://www.actel.com/products/mx/docs.aspx
footprint VQ80_N (Thin QFP, 80-Leads, Body 14 x 14mm, Pitch 0.65mm, IPC Medium Density)
footprint VQ80_L (Thin QFP, 80-Leads, Body 14 x 14mm, Pitch 0.65mm, IPC High Density)
footprint VQ80_M (Thin QFP, 80-Leads, Body 14 x 14mm, Pitch 0.65mm, IPC Low Density)
pins: 1 IO (io), 2 NC, 3 NC, 4 NC, 5 IO (io), 6 IO (io), 7 GND (power), 8 IO (io), 9 IO (io), 10 IO (io), 11 IO (io), 12 IO (io), 13 VCC (power), 14 IO (io), 15 IO (io), 16 IO (io), 17 NC, 18 NC, 19 NC, 20 VCC (power), 21 IO (io), 22 IO (io), 23 IO (io), 24 IO (io), 25 IO (io), 26 IO (io), 27 GND (power), 28 IO (io), 29 IO (io), 30 IO (io), 31 IO (io), 32 IO (io), 33 VCC (power), 34 IO (io), 35 IO (io), 36 IO (io), 37 IO (io), 38 IO (io), 39 IO (io), 40 IO (io), 41 NC, 42 NC, 43 NC, 44 IO (io), 45 IO (io), 46 IO (io), 47 GND (power), 48 IO (io), 49 IO (io), 50 CLK/IO (io), 51 IO (io), 52 MODE (in), 53 VCC (power), 54 NC, 55 NC, 56 NC, 57 SDI/IO (io), 58 DCLK/IO (io), 59 PRA/IO (io), 60 NC, 61 PRB/IO (io), 62 IO (io), 63 IO (io), 64 IO (io), 65 IO (io), 66 IO (io), 67 IO (io), 68 GND (power), 69 IO (io), 70 IO (io), 71 IO (io), 72 IO (io), 73 IO (io), 74 VCC (power), 75 IO (io), 76 IO (io), 77 IO (io), 78 IO (io), 79 IO (io), 80 IO (io)

## A40MX02-VQ80A
designator U?
A40MX02 FPGA, 57 User IOs, 80-Pin VQFP, Speed Grade Standard, Automotive Grade; DatasheetVersion: v3.1, May-2006; PackageVersion: ver11.2, Nov-2009; PackageReference: VQ80; PackageDescription: 80-Pin Plastic Quad Flat Pack (VQ80); Code_JEDEC: MS-026-AEC; ComponentLink1Description: Manufacturer URL; ComponentLink1URL: http://www.actel.com/; ComponentLink2Description: MX Automotive Datasheet; ComponentLink2URL: http://www.actel.com/documents/MX_Auto_DS.pdf; ComponentLink3Description: Package Mechanical Drawings; ComponentLink3URL: http://www.actel.com/documents/PckgMechDrwngs.pdf; ComponentLink4Description: MX Documents; ComponentLink4URL: http://www.actel.com/products/mx/docs.aspx
footprint VQ80_N (Thin QFP, 80-Leads, Body 14 x 14mm, Pitch 0.65mm, IPC Medium Density)
footprint VQ80_L (Thin QFP, 80-Leads, Body 14 x 14mm, Pitch 0.65mm, IPC High Density)
footprint VQ80_M (Thin QFP, 80-Leads, Body 14 x 14mm, Pitch 0.65mm, IPC Low Density)
pins: 1 IO (io), 2 NC, 3 NC, 4 NC, 5 IO (io), 6 IO (io), 7 GND (power), 8 IO (io), 9 IO (io), 10 IO (io), 11 IO (io), 12 IO (io), 13 VCC (power), 14 IO (io), 15 IO (io), 16 IO (io), 17 NC, 18 NC, 19 NC, 20 VCC (power), 21 IO (io), 22 IO (io), 23 IO (io), 24 IO (io), 25 IO (io), 26 IO (io), 27 GND (power), 28 IO (io), 29 IO (io), 30 IO (io), 31 IO (io), 32 IO (io), 33 VCC (power), 34 IO (io), 35 IO (io), 36 IO (io), 37 IO (io), 38 IO (io), 39 IO (io), 40 IO (io), 41 NC, 42 NC, 43 NC, 44 IO (io), 45 IO (io), 46 IO (io), 47 GND (power), 48 IO (io), 49 IO (io), 50 CLK/IO (io), 51 IO (io), 52 MODE (in), 53 VCC (power), 54 NC, 55 NC, 56 NC, 57 SDI/IO (io), 58 DCLK/IO (io), 59 PRA/IO (io), 60 NC, 61 PRB/IO (io), 62 IO (io), 63 IO (io), 64 IO (io), 65 IO (io), 66 IO (io), 67 IO (io), 68 GND (power), 69 IO (io), 70 IO (io), 71 IO (io), 72 IO (io), 73 IO (io), 74 VCC (power), 75 IO (io), 76 IO (io), 77 IO (io), 78 IO (io), 79 IO (io), 80 IO (io)

## A40MX02-VQ80I
designator U?
A40MX02 FPGA, 57 User IOs, 80-Pin VQFP, Speed Grade Standard, Industrial Grade; DatasheetVersion: v6.1, Apr-2009; PackageVersion: ver11.2, Nov-2009; PackageReference: VQ80; PackageDescription: 80-Pin Plastic Quad Flat Pack (VQ80); Code_JEDEC: MS-026-AEC; ComponentLink1Description: Manufacturer URL; ComponentLink1URL: http://www.actel.com/; ComponentLink2Description: MX Datasheet; ComponentLink2URL: http://www.actel.com/documents/MX_DS.pdf; ComponentLink3Description: Package Mechanical Drawings; ComponentLink3URL: http://www.actel.com/documents/PckgMechDrwngs.pdf; ComponentLink4Description: MX Documents; ComponentLink4URL: http://www.actel.com/products/mx/docs.aspx
footprint VQ80_N (Thin QFP, 80-Leads, Body 14 x 14mm, Pitch 0.65mm, IPC Medium Density)
footprint VQ80_L (Thin QFP, 80-Leads, Body 14 x 14mm, Pitch 0.65mm, IPC High Density)
footprint VQ80_M (Thin QFP, 80-Leads, Body 14 x 14mm, Pitch 0.65mm, IPC Low Density)
pins: 1 IO (io), 2 NC, 3 NC, 4 NC, 5 IO (io), 6 IO (io), 7 GND (power), 8 IO (io), 9 IO (io), 10 IO (io), 11 IO (io), 12 IO (io), 13 VCC (power), 14 IO (io), 15 IO (io), 16 IO (io), 17 NC, 18 NC, 19 NC, 20 VCC (power), 21 IO (io), 22 IO (io), 23 IO (io), 24 IO (io), 25 IO (io), 26 IO (io), 27 GND (power), 28 IO (io), 29 IO (io), 30 IO (io), 31 IO (io), 32 IO (io), 33 VCC (power), 34 IO (io), 35 IO (io), 36 IO (io), 37 IO (io), 38 IO (io), 39 IO (io), 40 IO (io), 41 NC, 42 NC, 43 NC, 44 IO (io), 45 IO (io), 46 IO (io), 47 GND (power), 48 IO (io), 49 IO (io), 50 CLK/IO (io), 51 IO (io), 52 MODE (in), 53 VCC (power), 54 NC, 55 NC, 56 NC, 57 SDI/IO (io), 58 DCLK/IO (io), 59 PRA/IO (io), 60 NC, 61 PRB/IO (io), 62 IO (io), 63 IO (io), 64 IO (io), 65 IO (io), 66 IO (io), 67 IO (io), 68 GND (power), 69 IO (io), 70 IO (io), 71 IO (io), 72 IO (io), 73 IO (io), 74 VCC (power), 75 IO (io), 76 IO (io), 77 IO (io), 78 IO (io), 79 IO (io), 80 IO (io)

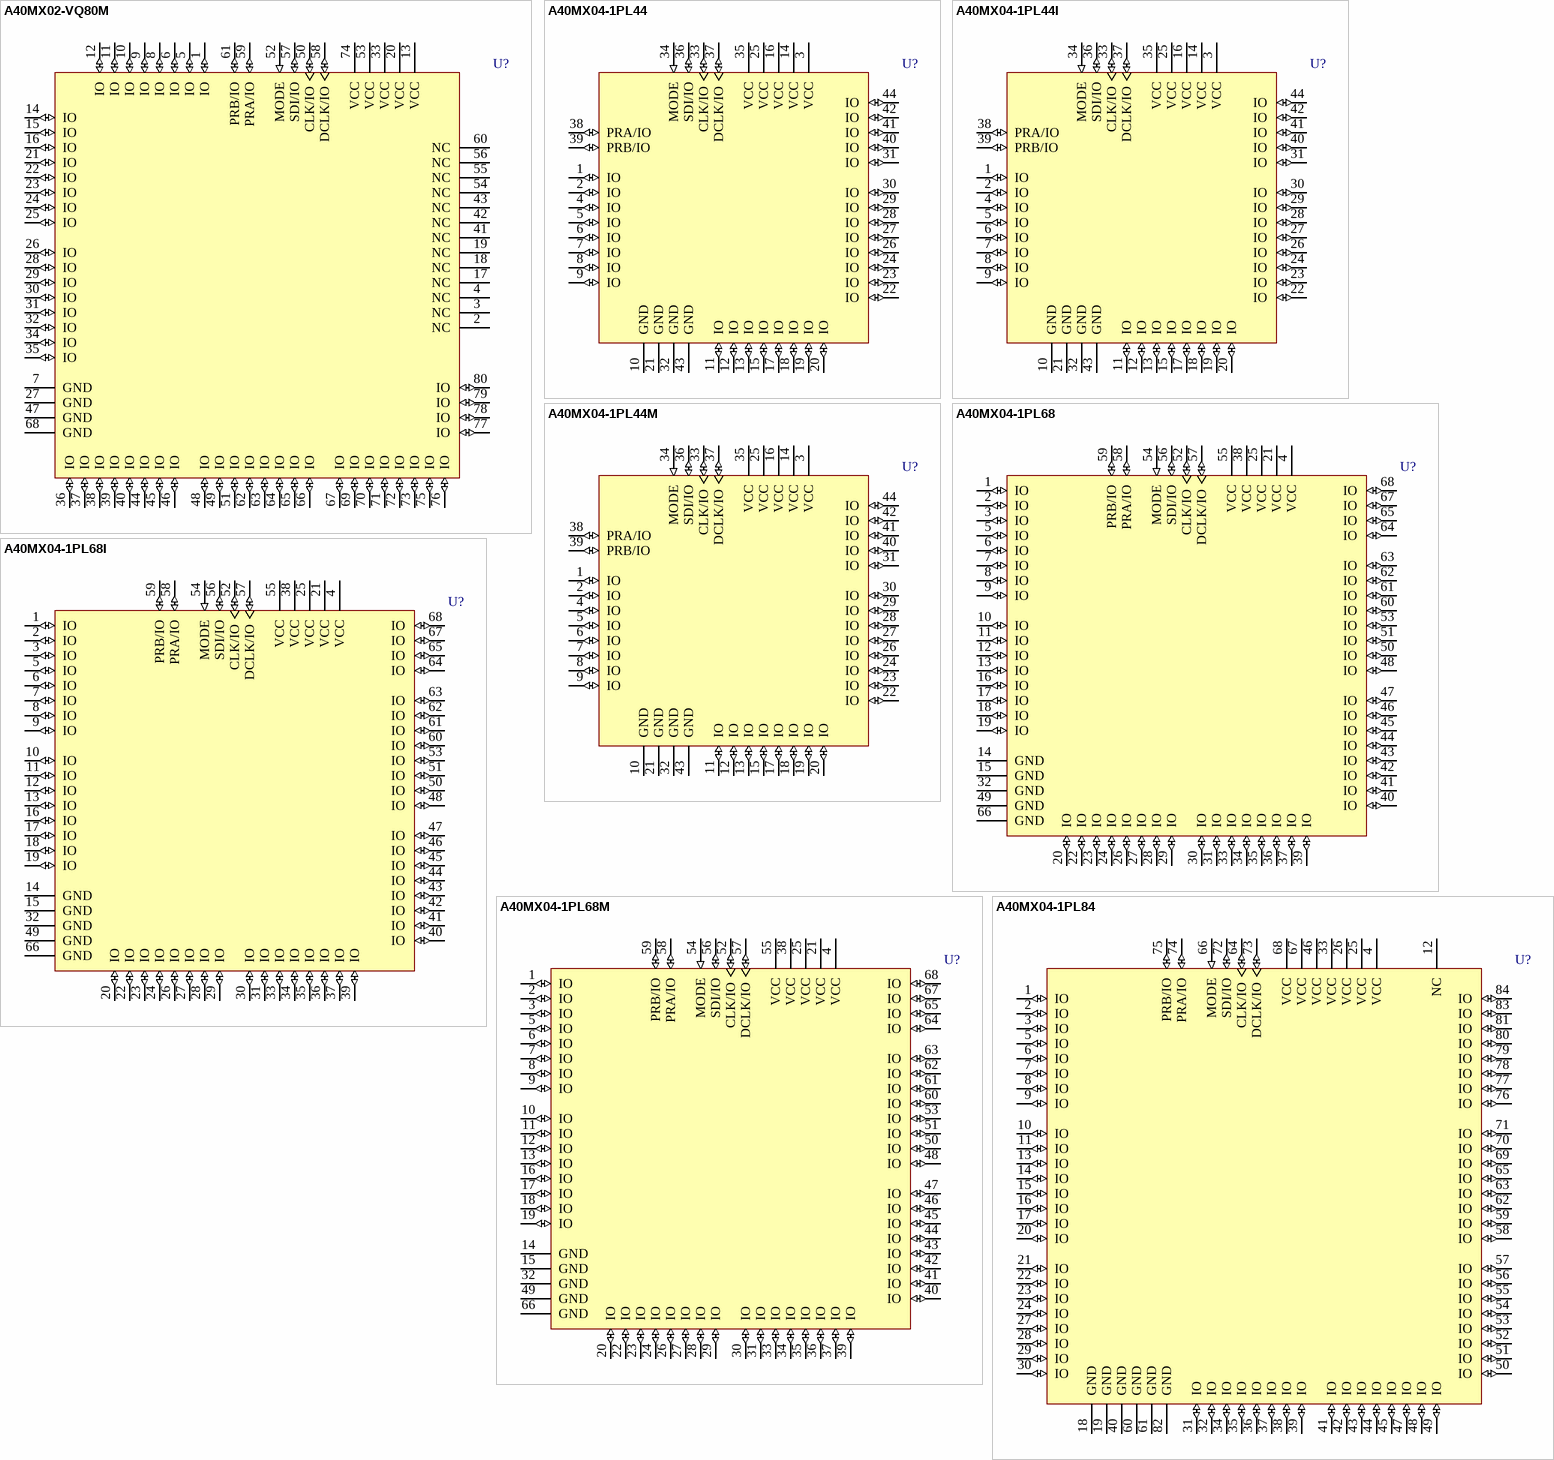
[diagram p6: symbols A40MX02-VQ80M to A40MX04-1PL84]

## A40MX02-VQ80M
designator U?
A40MX02 FPGA, 57 User IOs, 80-Pin VQFP, Speed Grade Standard, Military Grade; DatasheetVersion: v6.1, Apr-2009; PackageVersion: ver11.2, Nov-2009; PackageReference: VQ80; PackageDescription: 80-Pin Plastic Quad Flat Pack (VQ80); Code_JEDEC: MS-026-AEC; ComponentLink1Description: Manufacturer URL; ComponentLink1URL: http://www.actel.com/; ComponentLink2Description: MX Datasheet; ComponentLink2URL: http://www.actel.com/documents/MX_DS.pdf; ComponentLink3Description: Package Mechanical Drawings; ComponentLink3URL: http://www.actel.com/documents/PckgMechDrwngs.pdf; ComponentLink4Description: MX Documents; ComponentLink4URL: http://www.actel.com/products/mx/docs.aspx
footprint VQ80_N (Thin QFP, 80-Leads, Body 14 x 14mm, Pitch 0.65mm, IPC Medium Density)
footprint VQ80_L (Thin QFP, 80-Leads, Body 14 x 14mm, Pitch 0.65mm, IPC High Density)
footprint VQ80_M (Thin QFP, 80-Leads, Body 14 x 14mm, Pitch 0.65mm, IPC Low Density)
pins: 1 IO (io), 2 NC, 3 NC, 4 NC, 5 IO (io), 6 IO (io), 7 GND (power), 8 IO (io), 9 IO (io), 10 IO (io), 11 IO (io), 12 IO (io), 13 VCC (power), 14 IO (io), 15 IO (io), 16 IO (io), 17 NC, 18 NC, 19 NC, 20 VCC (power), 21 IO (io), 22 IO (io), 23 IO (io), 24 IO (io), 25 IO (io), 26 IO (io), 27 GND (power), 28 IO (io), 29 IO (io), 30 IO (io), 31 IO (io), 32 IO (io), 33 VCC (power), 34 IO (io), 35 IO (io), 36 IO (io), 37 IO (io), 38 IO (io), 39 IO (io), 40 IO (io), 41 NC, 42 NC, 43 NC, 44 IO (io), 45 IO (io), 46 IO (io), 47 GND (power), 48 IO (io), 49 IO (io), 50 CLK/IO (io), 51 IO (io), 52 MODE (in), 53 VCC (power), 54 NC, 55 NC, 56 NC, 57 SDI/IO (io), 58 DCLK/IO (io), 59 PRA/IO (io), 60 NC, 61 PRB/IO (io), 62 IO (io), 63 IO (io), 64 IO (io), 65 IO (io), 66 IO (io), 67 IO (io), 68 GND (power), 69 IO (io), 70 IO (io), 71 IO (io), 72 IO (io), 73 IO (io), 74 VCC (power), 75 IO (io), 76 IO (io), 77 IO (io), 78 IO (io), 79 IO (io), 80 IO (io)

## A40MX04-1PL44
designator U?
A40MX04 FPGA, 34 User IOs, 44-Pin PLCC, Speed Grade 1, Commercial Grade; DatasheetVersion: v6.1, Apr-2009; PackageVersion: ver11.2, Nov-2009; PackageReference: PL44; PackageDescription: 44-Pin Plastic Leaded Chip Carrier (PL44); Code_JEDEC: MS-018-AC; Code_IPC: PLCC-44; ComponentLink1Description: Manufacturer URL; ComponentLink1URL: http://www.actel.com/; ComponentLink2Description: MX Datasheet; ComponentLink2URL: http://www.actel.com/documents/MX_DS.pdf; ComponentLink3Description: Package Mechanical Drawings; ComponentLink3URL: http://www.actel.com/documents/PckgMechDrwngs.pdf; ComponentLink4Description: MX Documents; ComponentLink4URL: http://www.actel.com/products/mx/docs.aspx
footprint PL44_N (Leaded Chip Carrier, 44-Leads, Body 16.6x16.6mm, Pitch 1.27mm, IPC Medium Density)
footprint PL44_L (Leaded Chip Carrier, 44-Leads, Body 16.6x16.6mm, Pitch 1.27mm, IPC High Density)
footprint PL44_M (Leaded Chip Carrier, 44-Leads, Body 16.6x16.6mm, Pitch 1.27mm, IPC Low Density)
pins: 1 IO (io), 2 IO (io), 3 VCC (power), 4 IO (io), 5 IO (io), 6 IO (io), 7 IO (io), 8 IO (io), 9 IO (io), 10 GND (power), 11 IO (io), 12 IO (io), 13 IO (io), 14 VCC (power), 15 IO (io), 16 VCC (power), 17 IO (io), 18 IO (io), 19 IO (io), 20 IO (io), 21 GND (power), 22 IO (io), 23 IO (io), 24 IO (io), 25 VCC (power), 26 IO (io), 27 IO (io), 28 IO (io), 29 IO (io), 30 IO (io), 31 IO (io), 32 GND (power), 33 CLK/IO (io), 34 MODE (in), 35 VCC (power), 36 SDI/IO (io), 37 DCLK/IO (io), 38 PRA/IO (io), 39 PRB/IO (io), 40 IO (io), 41 IO (io), 42 IO (io), 43 GND (power), 44 IO (io)

## A40MX04-1PL44I
designator U?
A40MX04 FPGA, 34 User IOs, 44-Pin PLCC, Speed Grade 1, Industrial Grade; DatasheetVersion: v6.1, Apr-2009; PackageVersion: ver11.2, Nov-2009; PackageReference: PL44; PackageDescription: 44-Pin Plastic Leaded Chip Carrier (PL44); Code_JEDEC: MS-018-AC; Code_IPC: PLCC-44; ComponentLink1Description: Manufacturer URL; ComponentLink1URL: http://www.actel.com/; ComponentLink2Description: MX Datasheet; ComponentLink2URL: http://www.actel.com/documents/MX_DS.pdf; ComponentLink3Description: Package Mechanical Drawings; ComponentLink3URL: http://www.actel.com/documents/PckgMechDrwngs.pdf; ComponentLink4Description: MX Documents; ComponentLink4URL: http://www.actel.com/products/mx/docs.aspx
footprint PL44_N (Leaded Chip Carrier, 44-Leads, Body 16.6x16.6mm, Pitch 1.27mm, IPC Medium Density)
footprint PL44_L (Leaded Chip Carrier, 44-Leads, Body 16.6x16.6mm, Pitch 1.27mm, IPC High Density)
footprint PL44_M (Leaded Chip Carrier, 44-Leads, Body 16.6x16.6mm, Pitch 1.27mm, IPC Low Density)
pins: 1 IO (io), 2 IO (io), 3 VCC (power), 4 IO (io), 5 IO (io), 6 IO (io), 7 IO (io), 8 IO (io), 9 IO (io), 10 GND (power), 11 IO (io), 12 IO (io), 13 IO (io), 14 VCC (power), 15 IO (io), 16 VCC (power), 17 IO (io), 18 IO (io), 19 IO (io), 20 IO (io), 21 GND (power), 22 IO (io), 23 IO (io), 24 IO (io), 25 VCC (power), 26 IO (io), 27 IO (io), 28 IO (io), 29 IO (io), 30 IO (io), 31 IO (io), 32 GND (power), 33 CLK/IO (io), 34 MODE (in), 35 VCC (power), 36 SDI/IO (io), 37 DCLK/IO (io), 38 PRA/IO (io), 39 PRB/IO (io), 40 IO (io), 41 IO (io), 42 IO (io), 43 GND (power), 44 IO (io)

## A40MX04-1PL44M
designator U?
A40MX04 FPGA, 34 User IOs, 44-Pin PLCC, Speed Grade 1, Military Grade; DatasheetVersion: v6.1, Apr-2009; PackageVersion: ver11.2, Nov-2009; PackageReference: PL44; PackageDescription: 44-Pin Plastic Leaded Chip Carrier (PL44); Code_JEDEC: MS-018-AC; Code_IPC: PLCC-44; ComponentLink1Description: Manufacturer URL; ComponentLink1URL: http://www.actel.com/; ComponentLink2Description: MX Datasheet; ComponentLink2URL: http://www.actel.com/documents/MX_DS.pdf; ComponentLink3Description: Package Mechanical Drawings; ComponentLink3URL: http://www.actel.com/documents/PckgMechDrwngs.pdf; ComponentLink4Description: MX Documents; ComponentLink4URL: http://www.actel.com/products/mx/docs.aspx
footprint PL44_N (Leaded Chip Carrier, 44-Leads, Body 16.6x16.6mm, Pitch 1.27mm, IPC Medium Density)
footprint PL44_L (Leaded Chip Carrier, 44-Leads, Body 16.6x16.6mm, Pitch 1.27mm, IPC High Density)
footprint PL44_M (Leaded Chip Carrier, 44-Leads, Body 16.6x16.6mm, Pitch 1.27mm, IPC Low Density)
pins: 1 IO (io), 2 IO (io), 3 VCC (power), 4 IO (io), 5 IO (io), 6 IO (io), 7 IO (io), 8 IO (io), 9 IO (io), 10 GND (power), 11 IO (io), 12 IO (io), 13 IO (io), 14 VCC (power), 15 IO (io), 16 VCC (power), 17 IO (io), 18 IO (io), 19 IO (io), 20 IO (io), 21 GND (power), 22 IO (io), 23 IO (io), 24 IO (io), 25 VCC (power), 26 IO (io), 27 IO (io), 28 IO (io), 29 IO (io), 30 IO (io), 31 IO (io), 32 GND (power), 33 CLK/IO (io), 34 MODE (in), 35 VCC (power), 36 SDI/IO (io), 37 DCLK/IO (io), 38 PRA/IO (io), 39 PRB/IO (io), 40 IO (io), 41 IO (io), 42 IO (io), 43 GND (power), 44 IO (io)

## A40MX04-1PL68
designator U?
A40MX04 FPGA, 57 User IOs, 68-Pin PLCC, Speed Grade 1, Commercial Grade; DatasheetVersion: v6.1, Apr-2009; PackageVersion: ver11.2, Nov-2009; PackageReference: PL68; PackageDescription: 68-Pin Plastic Leaded Chip Carrier (PL68); Code_JEDEC: MS-018-AE; Code_IPC: PLCC-68; ComponentLink1Description: Manufacturer URL; ComponentLink1URL: http://www.actel.com/; ComponentLink2Description: MX Datasheet; ComponentLink2URL: http://www.actel.com/documents/MX_DS.pdf; ComponentLink3Description: Package Mechanical Drawings; ComponentLink3URL: http://www.actel.com/documents/PckgMechDrwngs.pdf; ComponentLink4Description: MX Documents; ComponentLink4URL: http://www.actel.com/products/mx/docs.aspx
footprint PL68_N (Leaded Chip Carrier, 68-Leads, Body 24x24mm, Pitch 1.27mm, IPC Medium Density)
footprint PL68_L (Leaded Chip Carrier, 68-Leads, Body 24x24mm, Pitch 1.27mm, IPC High Density)
footprint PL68_M (Leaded Chip Carrier, 68-Leads, Body 24x24mm, Pitch 1.27mm, IPC Low Density)
pins: 1 IO (io), 2 IO (io), 3 IO (io), 4 VCC (power), 5 IO (io), 6 IO (io), 7 IO (io), 8 IO (io), 9 IO (io), 10 IO (io), 11 IO (io), 12 IO (io), 13 IO (io), 14 GND (power), 15 GND (power), 16 IO (io), 17 IO (io), 18 IO (io), 19 IO (io), 20 IO (io), 21 VCC (power), 22 IO (io), 23 IO (io), 24 IO (io), 25 VCC (power), 26 IO (io), 27 IO (io), 28 IO (io), 29 IO (io), 30 IO (io), 31 IO (io), 32 GND (power), 33 IO (io), 34 IO (io), 35 IO (io), 36 IO (io), 37 IO (io), 38 VCC (power), 39 IO (io), 40 IO (io), 41 IO (io), 42 IO (io), 43 IO (io), 44 IO (io), 45 IO (io), 46 IO (io), 47 IO (io), 48 IO (io), 49 GND (power), 50 IO (io), 51 IO (io), 52 CLK/IO (io), 53 IO (io), 54 MODE (in), 55 VCC (power), 56 SDI/IO (io), 57 DCLK/IO (io), 58 PRA/IO (io), 59 PRB/IO (io), 60 IO (io), 61 IO (io), 62 IO (io), 63 IO (io), 64 IO (io), 65 IO (io), 66 GND (power), 67 IO (io), 68 IO (io)

## A40MX04-1PL68I
designator U?
A40MX04 FPGA, 57 User IOs, 68-Pin PLCC, Speed Grade 1, Industrial Grade; DatasheetVersion: v6.1, Apr-2009; PackageVersion: ver11.2, Nov-2009; PackageReference: PL68; PackageDescription: 68-Pin Plastic Leaded Chip Carrier (PL68); Code_JEDEC: MS-018-AE; Code_IPC: PLCC-68; ComponentLink1Description: Manufacturer URL; ComponentLink1URL: http://www.actel.com/; ComponentLink2Description: MX Datasheet; ComponentLink2URL: http://www.actel.com/documents/MX_DS.pdf; ComponentLink3Description: Package Mechanical Drawings; ComponentLink3URL: http://www.actel.com/documents/PckgMechDrwngs.pdf; ComponentLink4Description: MX Documents; ComponentLink4URL: http://www.actel.com/products/mx/docs.aspx
footprint PL68_N (Leaded Chip Carrier, 68-Leads, Body 24x24mm, Pitch 1.27mm, IPC Medium Density)
footprint PL68_L (Leaded Chip Carrier, 68-Leads, Body 24x24mm, Pitch 1.27mm, IPC High Density)
footprint PL68_M (Leaded Chip Carrier, 68-Leads, Body 24x24mm, Pitch 1.27mm, IPC Low Density)
pins: 1 IO (io), 2 IO (io), 3 IO (io), 4 VCC (power), 5 IO (io), 6 IO (io), 7 IO (io), 8 IO (io), 9 IO (io), 10 IO (io), 11 IO (io), 12 IO (io), 13 IO (io), 14 GND (power), 15 GND (power), 16 IO (io), 17 IO (io), 18 IO (io), 19 IO (io), 20 IO (io), 21 VCC (power), 22 IO (io), 23 IO (io), 24 IO (io), 25 VCC (power), 26 IO (io), 27 IO (io), 28 IO (io), 29 IO (io), 30 IO (io), 31 IO (io), 32 GND (power), 33 IO (io), 34 IO (io), 35 IO (io), 36 IO (io), 37 IO (io), 38 VCC (power), 39 IO (io), 40 IO (io), 41 IO (io), 42 IO (io), 43 IO (io), 44 IO (io), 45 IO (io), 46 IO (io), 47 IO (io), 48 IO (io), 49 GND (power), 50 IO (io), 51 IO (io), 52 CLK/IO (io), 53 IO (io), 54 MODE (in), 55 VCC (power), 56 SDI/IO (io), 57 DCLK/IO (io), 58 PRA/IO (io), 59 PRB/IO (io), 60 IO (io), 61 IO (io), 62 IO (io), 63 IO (io), 64 IO (io), 65 IO (io), 66 GND (power), 67 IO (io), 68 IO (io)